# Altium schematic symbol library FH12-10S-0.5SH(1)(98).SchLib: 1 symbol
Pins are listed as number, name and electrical type; pins without a type are passive.

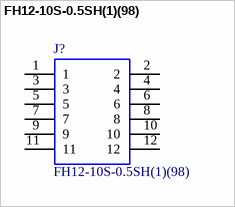
[diagram p0: symbol FH12-10S-0.5SH(1)(98)]

## FH12-10S-0.5SH(1)(98)
designator J?
FFC & FPC Connectors 10P SMT HORIZONTAL .5MM PITCH; Manufacturer_Name: Hirose; Geometry.Height: 2mm; Manufacturer_Part_Number: FH12-10S-0.5SH(1)(98); RS Part Number: *; RS Price/Stock: *; Arrow Part Number: FH12-10S-0.5SH(1)(98); Arrow Price/Stock: *; Datasheet Link: https://www.hirose.com/product/en/download_file/key_name/FH12-10S-0.5SH%281%29%2898%29/category/Drawing%20(2D)/doc_file_id/144497/?file_category_id=6&item_id=05280003598&is_series=
footprint FH1210S05SH198
pins: 1, 2, 3, 4, 5, 6, 7, 8, 9, 10, 11, 12